# Altium integrated library RC1206FR-0786R6L.IntLib: 1 symbol
Pins are listed as number, name and electrical type; pins without a type are passive.

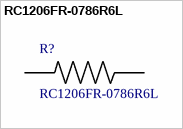
[diagram p0: symbol RC1206FR-0786R6L]

## RC1206FR-0786R6L
designator R?
/ RC Series 1206 0.25 W 86.6 Ohms 1% Â±100 ppm/Â°C SMT Thick Film Chip Resistor /; MF: Yageo; SnapEDA_Link: https://www.snapeda.com/parts/RC1206FR-0786R6L/Yageo/view-part/?ref=snap; Availability: Unavailable; Price: None; MP: RC1206FR-0786R6L; Package: 3116 Yageo; Value: *
footprint *RESC3116X65N
pins: 1, 2